# Altium schematic symbol library CC25xx.SchLib: 5 symbols
Pins are listed as number, name and electrical type; pins without a type are passive.

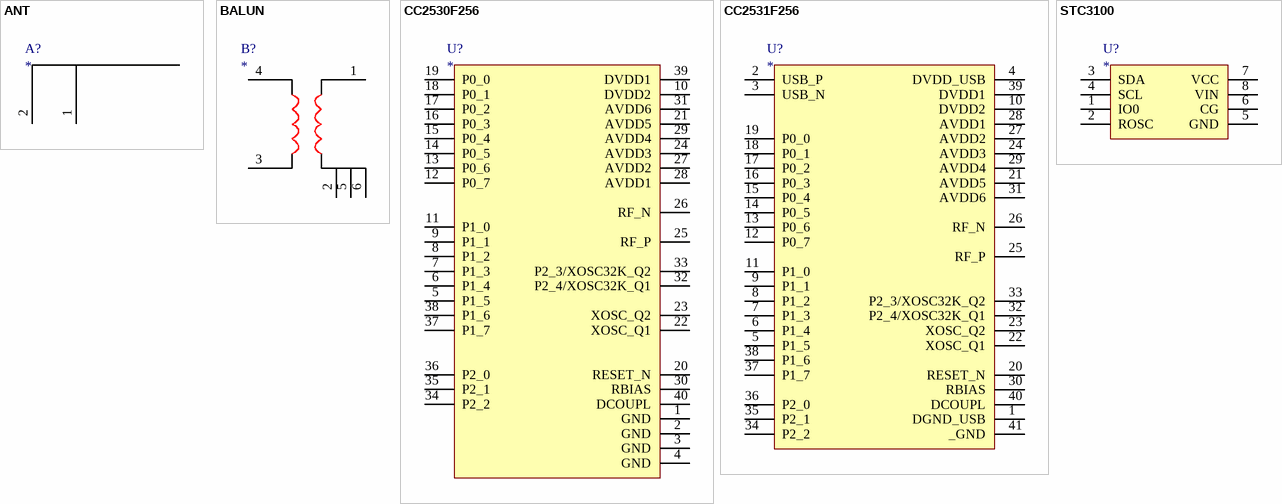
[diagram p0: symbols ANT to STC3100]

## ANT
designator A?
Mount: 1; Manufacturer Part Number: *
pins: 1, 2

## BALUN
designator B?
BALUN JTI MATCHED ZIGBEE; Manufacturer Part Number: 2450BM15A0002E; Mount: 1
pins: 1, 2, 3, 4, 5, 6

## CC2530F256
designator U?
IC SOC IEEE 802.15.4/ZIG 40VQFN; Manufacturer Part Number: CC2530F256RHAT; Mount: 1
pins: 1 GND, 2 GND, 3 GND, 4 GND, 5 P1_5, 6 P1_4, 7 P1_3, 8 P1_2, 9 P1_1, 10 DVDD2, 11 P1_0, 12 P0_7, 13 P0_6, 14 P0_5, 15 P0_4, 16 P0_3, 17 P0_2, 18 P0_1, 19 P0_0, 20 RESET_N, 21 AVDD5, 22 XOSC_Q1, 23 XOSC_Q2, 24 AVDD3, 25 RF_P, 26 RF_N, 27 AVDD2, 28 AVDD1, 29 AVDD4, 30 RBIAS, 31 AVDD6, 32 P2_4/XOSC32K_Q1, 33 P2_3/XOSC32K_Q2, 34 P2_2, 35 P2_1, 36 P2_0, 37 P1_7, 38 P1_6, 39 DVDD1, 40 DCOUPL

## CC2531F256
designator U?
IC SOC IEEE 802.15.4/ZIG 40VQFN; Manufacturer Part Number: CC2531F256RHAT; Mount: 1
pins: 1 DGND_USB, 2 USB_P, 3 USB_N, 4 DVDD_USB, 5 P1_5, 6 P1_4, 7 P1_3, 8 P1_2, 9 P1_1, 10 DVDD2, 11 P1_0, 12 P0_7, 13 P0_6, 14 P0_5, 15 P0_4, 16 P0_3, 17 P0_2, 18 P0_1, 19 P0_0, 20 RESET_N, 21 AVDD5, 22 XOSC_Q1, 23 XOSC_Q2, 24 AVDD3, 25 RF_P, 26 RF_N, 27 AVDD2, 28 AVDD1, 29 AVDD4, 30 RBIAS, 31 AVDD6, 32 P2_4/XOSC32K_Q1, 33 P2_3/XOSC32K_Q2, 34 P2_2, 35 P2_1, 36 P2_0, 37 P1_7, 38 P1_6, 39 DVDD1, 40 DCOUPL, 41 _GND

## STC3100
designator U?
IC BATTERY MON W/GAUGE 8-DFN; Manufacturer Part Number: STC3100IQT; Mount: 1
pins: 1 IO0, 2 ROSC, 3 SDA, 4 SCL, 5 GND, 6 CG, 7 VCC, 8 VIN